# Altium footprint library x-io.PcbLib: 21 footprints (part 1 of 2)
Each footprint in its own frame and in the unit in brackets; x right, y up, seen from the top. Pads: shape width x height; smd on the part's side, far side on the other; paste and mask are expansions set on the pad; w line width, h text height; cw(c..) or ccw(c..) is an arc to the next point about the centre after c.
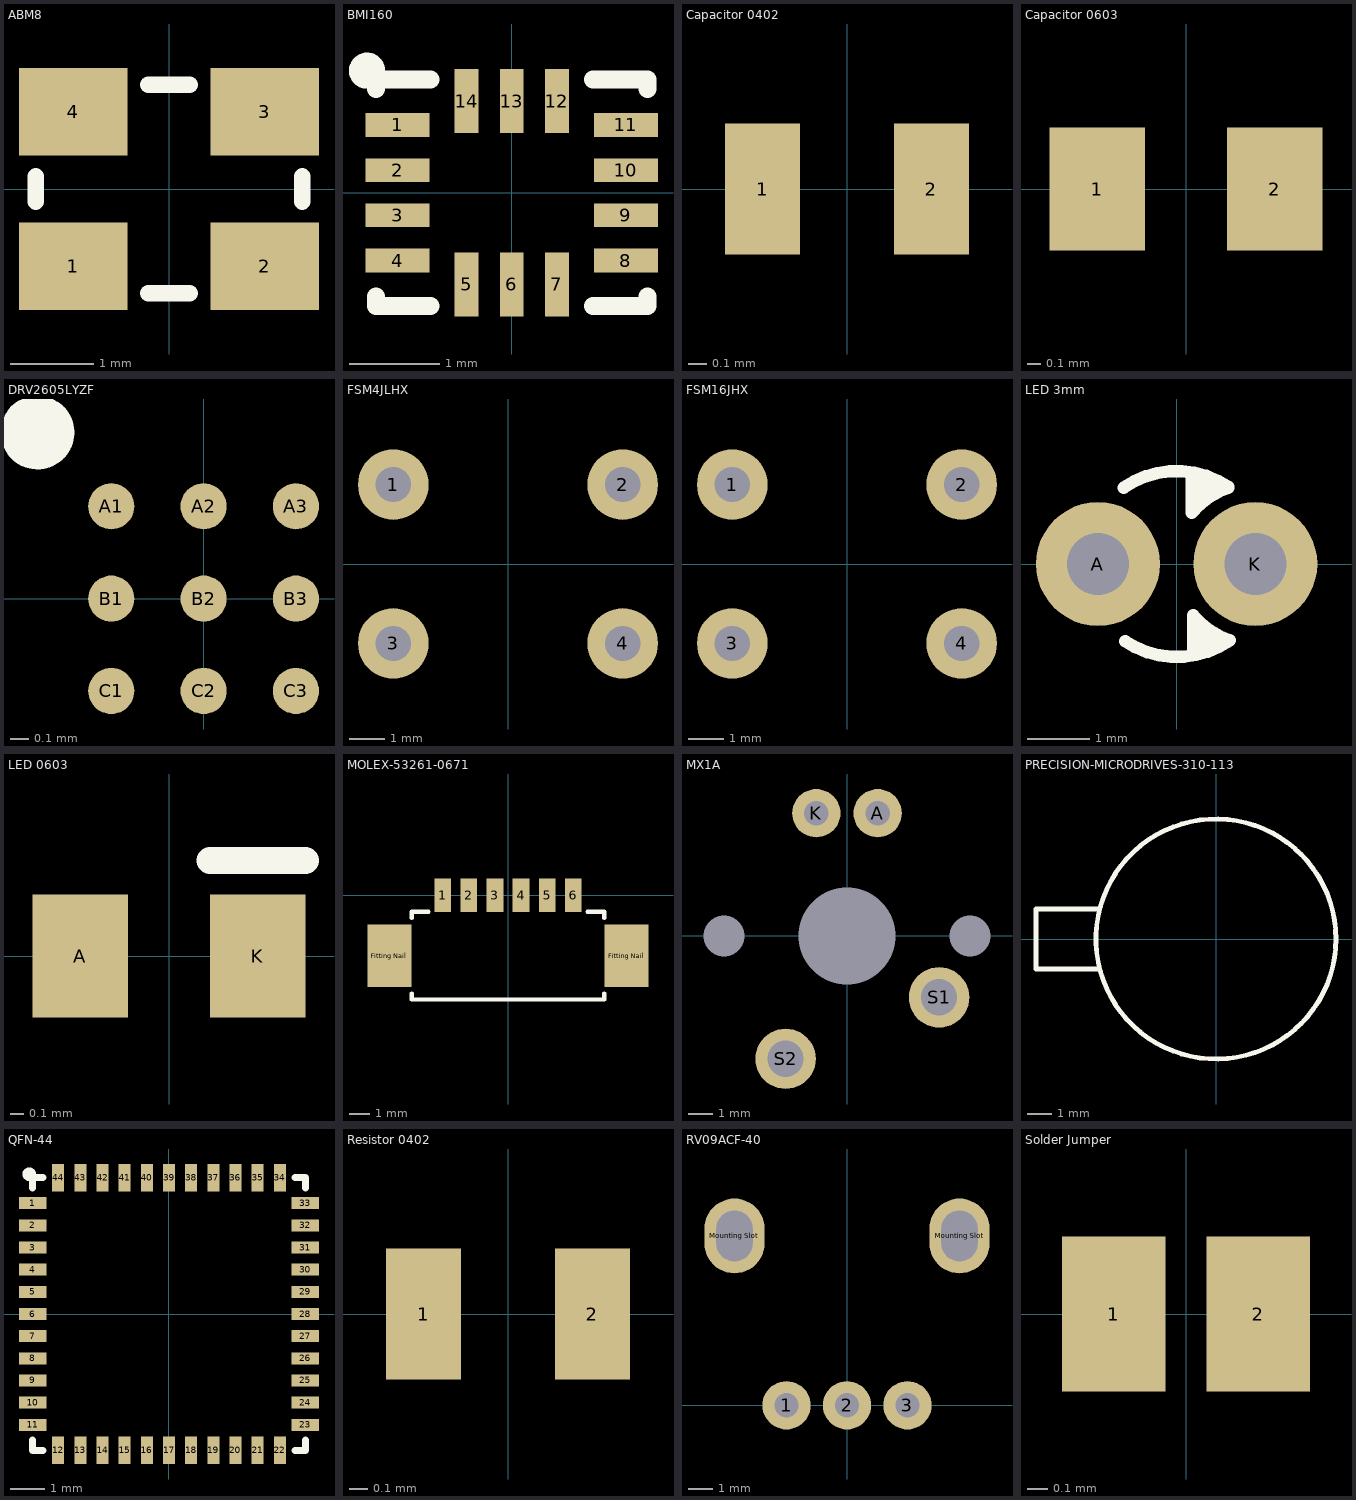
[diagram p0: the footprints below, top view; thin cyan lines are the x and y axes]

## ABM8 [mm]
pads (4):
  rect 1.3x1.05 smd: 1(-1.15,-0.925) 2(1.15,-0.925) 3(1.15,0.925) 4(-1.15,0.925)
Top Overlay:
  lines w0.2: -1.6,-0.15 -1.6,0.15 ; -0.25,-1.25 0.25,-1.25 ; -0.25,1.25 0.25,1.25 ; 1.6,-0.15 1.6,0.15
3D body: height 0.74, standoff -0.02, extent -1.6,-1.25 1.6,1.25

## BMI160 [mm]
pads (14):
  rect 0.709x0.262 smd: 1(-1.262,0.75) 2(-1.262,0.25) 3(-1.262,-0.25) 4(-1.262,-0.75) 8(1.262,-0.75) 9(1.262,-0.25) 10(1.262,0.25) 11(1.262,0.75)
  rect 0.262x0.709 smd: 5(-0.5,-1.012) 6(0,-1.012) 7(0.5,-1.012) 12(0.5,1.012) 13(0,1.012) 14(-0.5,1.012)
Top Overlay:
  circle w0.2: c-1.6,1.35 r0.1
  lines w0.2: -1.5,-1.15 -1.5,-1.25 -0.9,-1.25 ; -1.5,1.15 -1.5,1.25 -0.9,1.25 ; 0.9,-1.25 1.5,-1.25 1.5,-1.15 ; 0.9,1.25 1.5,1.25 1.5,1.15
3D body: height 0.83, standoff 0, extent -1.5,-1.25 1.5,1.25

## Capacitor 0402 [mm]
pads (2):
  rect 0.4x0.7 smd: 1(-0.45,0) 2(0.45,0)
3D body: height 0.48, standoff -0.02, extent -0.5,-0.25 0.5,0.25

## Capacitor 0603 [mm]
pads (2):
  rect 0.7x0.9 smd: 1(-0.65,0) 2(0.65,0)
3D body: height 0.78, standoff -0.02, extent -0.8,-0.4 0.8,0.4

## DRV2605LYZF [mm]
pads (9):
  round 0.25 smd: A1(-0.5,0.5) A2(0,0.5) A3(0.5,0.5) B1(-0.5,0) B2(0,0) B3(0.5,0) C1(-0.5,-0.5) C2(0,-0.5) C3(0.5,-0.5)
Top Overlay:
  circle w0.2: c-0.9,0.9 r0.1
3D body: height 0.63, standoff 0, extent -0.72,-0.72 0.72,0.72

## FSM4JLHX [mm]
pads (4):
  round 2 hole 1: 1(-3.25,2.25) 2(3.25,2.25) 3(-3.25,-2.25) 4(3.25,-2.25)
3D body: height 5, standoff -3.51, extent -3.898,-2.995 3.9,2.995

## FSM16JHX [mm]
pads (4):
  round 2 hole 1: 1(-3.25,2.25) 2(3.25,2.25) 3(-3.25,-2.25) 4(3.25,-2.25)
3D body: height 17, standoff -3.51, extent -3.898,-2.995 3.9,2.995

## LED 3mm [mm]
pads (2):
  round 2 hole 1: A(-1.27,0) K(1.27,0)
Top Overlay:
  lines w0.2: -0.854,1.233 cw(c0,0) 0.832,1.248 ; -0.832,-1.248 ccw(c0,0) 0.854,-1.233 cw(c1.27,0) 0.266,-0.828 0.266,-1.366 ; 0.246,1.366 0.246,0.828 cw(c1.25,0) 0.834,1.233 ; 0.38,1 0.38,1.4 ; 0.4,-1.4 0.4,-1 ; 0.48,1.1 0.48,1.4 0.58,1.3 ; 0.5,-1.1 0.5,-1.4 0.6,-1.3
3D body: height 14.6, standoff -17, extent -1.6,-1.6 1.6,1.6

## LED 0603 [mm]
pads (2):
  rect 0.7x0.9 smd: A(-0.65,0) K(0.65,0)
Top Overlay:
  lines w0.2: 0.3,0.7 1,0.7
3D body: height 0.58, standoff -0.02, extent -0.8,-0.4 0.8,0.4

## MOLEX-53261-0671 [mm]
pads (8):
  rect 0.8x1.6 smd: 1(-3.125,0) 2(-1.875,0) 3(-0.625,0) 4(0.625,0) 5(1.875,0) 6(3.125,0)
  rect 2.1x3 smd: "Fitting Nail"(-5.675,-2.9) "Fitting Nail"(5.675,-2.9)
Top Overlay:
  lines w0.2: -4.6,-4.7 -4.6,-5 4.6,-5 4.6,-4.7 ; -4.6,-1.1 -4.6,-0.8 -3.8,-0.8 ; 3.8,-0.8 4.6,-0.8 4.6,-1.1
3D body: height 3.38, standoff -0.02, extent -6.325,-5.025 6.325,0.175

## MX1A [mm]
pads (7):
  round 2 hole 1: A(1.27,5.08) K(-1.27,5.08)
  round 1.524 hole 4 unplated: "Centre Fixing Pin"(0,0)
  round 1.524 hole 1.7 unplated: "Fixing Pin"(-5.08,0) "Fixing Pin"(5.08,0)
  round 2.5 hole 1.5: S1(3.81,-2.54) S2(-2.54,-5.08)
3D body: height 15.4, standoff -3.5, extent -7.825,-7.8 7.775,7.8

## PRECISION-MICRODRIVES-310-113 [mm]
Top Overlay:
  circle w0.2: c0,0 r5
  lines w0.2: -4.9,-1.25 -7.5,-1.25 -7.5,1.25 -4.9,1.25
3D body: height 3.4, standoff 0, extent -7.49,-5 5,5

## QFN-44 [mm]
pads (44):
  rect 0.8x0.35 smd: 1(-4,3.25) 2(-4,2.6) 3(-4,1.95) 4(-4,1.3) 5(-4,0.65) 6(-4,0) 7(-4,-0.65) 8(-4,-1.3) 9(-4,-1.95) 10(-4,-2.6) 11(-4,-3.25) 23(4,-3.25) 24(4,-2.6) 25(4,-1.95) 26(4,-1.3) 27(4,-0.65) 28(4,0) 29(4,0.65) 30(4,1.3) 31(4,1.95) 32(4,2.6) 33(4,3.25)
  rect 0.35x0.8 smd: 12(-3.25,-4) 13(-2.6,-4) 14(-1.95,-4) 15(-1.3,-4) 16(-0.65,-4) 17(0,-4) 18(0.65,-4) 19(1.3,-4) 20(1.95,-4) 21(2.6,-4) 22(3.25,-4) 34(3.25,4) 35(2.6,4) 36(1.95,4) 37(1.3,4) 38(0.65,4) 39(0,4) 40(-0.65,4) 41(-1.3,4) 42(-1.95,4) 43(-2.6,4) 44(-3.25,4)
Top Overlay:
  circle w0.2: c-4.1,4.1 r0.1
  lines w0.2: -4,-3.7 -4,-4 -3.7,-4 ; -4,3.7 -4,4 -3.7,4 ; 3.7,-4 4,-4 4,-3.7 ; 3.7,4 4,4 4,3.7
3D body: height 0.88, standoff -0.02, extent -4.01,-4.01 4.01,4.01

## Resistor 0402 [mm]
pads (2):
  rect 0.4x0.7 smd: 1(-0.45,0) 2(0.45,0)
3D body: height 0.34, standoff -0.01, extent -0.532,-0.25 0.468,0.25

## RV09ACF-40 [mm]
pads (5):
  round 2 hole 1: 1(-2.5,0) 2(0,0) 3(2.5,0)
  oval 2.5x3.1 hole 1.5 slot 2.1 at 90 deg: "Mounting Slot"(-4.65,7) "Mounting Slot"(4.65,7)
3D body: height 20, standoff -3.8, extent -4.876,-0.225 4.876,12.325

## Solder Jumper [mm]
pads (2):
  rect 0.5x0.75 smd paste-100: 1(-0.35,0) 2(0.35,0)